# EAGLE library part JST-PH6 (library jst-ph)
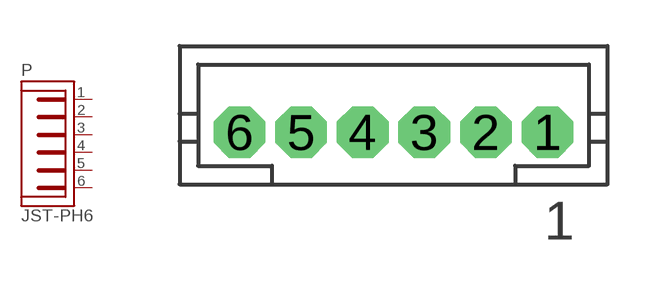
[diagram p0: symbol with the pads of JST-PH6; footprint JST-PH6]

Designator prefix P

## JST-PH6  [JST-PH6]
1  1  pas
2  2  pas
3  3  pas
4  4  pas
5  5  pas
6  6  pas

## Footprint JST-PH6 (pad centres in mm)
drill 0.7 pad 1.676 octagon: 1 5,0; 2 3,0; 3 1,0; 4 -1,0; 5 -3,0; 6 -5,0